# EAGLE library part DF13-10P-S (library con-Hirose)
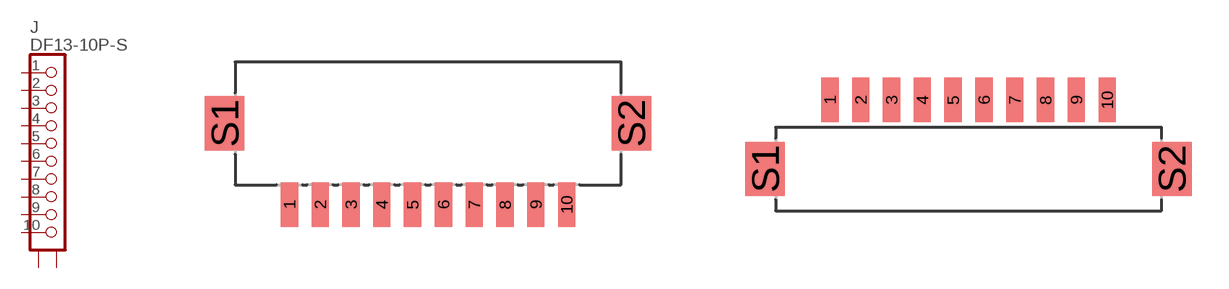
[diagram p7: symbol with the pads of DF13A-10P-1.25H; footprints DF13A-10P-1.25H, DF13C-10P-1.25V]

Designator prefix J

## DF13-10P-SH  [DF13A-10P-1.25H]
1  1  pas
2  2  pas
3  3  pas
4  4  pas
5  5  pas
6  6  pas
7  7  pas
8  8  pas
9  9  pas
10  10  pas
S1  S1  pas
S2  S2  pas

## DF13-10P-SV  [DF13C-10P-1.25V]
Pads as for DF13A-10P-1.25H

## Footprint DF13A-10P-1.25H (pad centres in mm)
smd 0.7 x 1.8: 1 -5.625,-3.3; 2 -4.375,-3.3; 3 -3.125,-3.3; 4 -1.875,-3.3; 5 -0.625,-3.3; 6 0.625,-3.3; 7 1.875,-3.3; 8 3.125,-3.3; 9 4.375,-3.3; 10 5.625,-3.3
smd 1.6 x 2.2: S1 -8.25,0; S2 8.25,0

## Footprint DF13C-10P-1.25V (pad centres in mm)
smd 0.7 x 1.8: 1 -5.625,2.8; 2 -4.375,2.8; 3 -3.125,2.8; 4 -1.875,2.8; 5 -0.625,2.8; 6 0.625,2.8; 7 1.875,2.8; 8 3.125,2.8; 9 4.375,2.8; 10 5.625,2.8
smd 1.6 x 2.2: S1 -8.25,0; S2 8.25,0